# EAGLE library part LM339 (library FlukeNic)
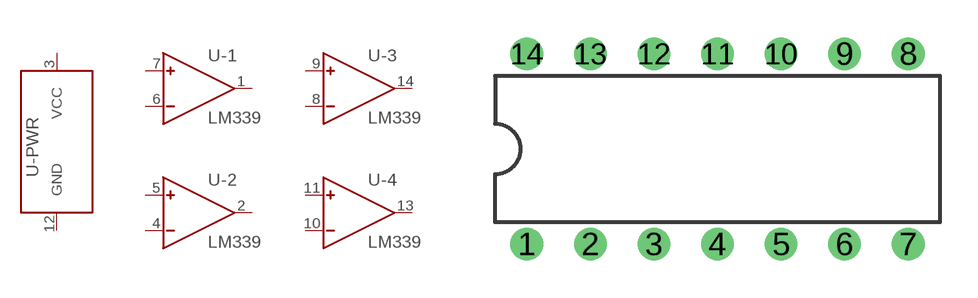
[diagram p0: symbol with the pads of DIL14; footprint DIL14]

Designator prefix U; gates -PWR=LM339PWR -1=OPAMP -2=OPAMP -3=OPAMP -4=OPAMP

## LM339N  [DIL14]
1  -1:OUT  out
2  -2:OUT  out
3  -PWR:VCC  pwr
4  -2:IN-  in
5  -2:IN+  in
6  -1:IN-  in
7  -1:IN+  in
8  -3:IN-  in
9  -3:IN+  in
10  -4:IN-  in
11  -4:IN+  in
12  -PWR:GND  pwr
13  -4:OUT  out
14  -3:OUT  out

## Footprint DIL14 (pad centres in mm)
Dual In Line Package
drill 0.8: 1 -7.62,-3.81; 2 -5.08,-3.81; 3 -2.54,-3.81; 4 0,-3.81; 5 2.54,-3.81; 6 5.08,-3.81; 7 7.62,-3.81; 8 7.62,3.81; 9 5.08,3.81; 10 2.54,3.81; 11 0,3.81; 12 -2.54,3.81; 13 -5.08,3.81; 14 -7.62,3.81